# Altium schematic symbol library 1043.SchLib: 1 symbol
Pins are listed as number, name and electrical type; pins without a type are passive.

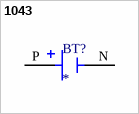
[diagram p0: symbol 1043]

## 1043
designator BT?
Battery Holder (Open) 18650 1 Cell PC Pin; MP: 1043; MF: {'manufacturer': u'Keystone Electronics'}; Price: None; Availability: Unavailable; Value: *; Package: None
footprint BAT_1043
pins: N, P